# Altium schematic symbol library HR911105A.SchLib: 1 symbol
Pins are listed as number, name and electrical type; pins without a type are passive.

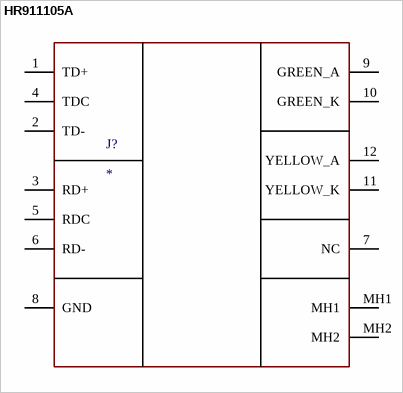
[diagram p0: symbol HR911105A]

## HR911105A
designator J?
Connector; Manufacturer_Name: Hanrun Electronics; Manufacturer_Part_Number: HR911105A; Datasheet Link: https://datasheet.lcsc.com/szlcsc/Zhongshan-HanRun-Elec-HR911105A_C12074.pdf; Height: 13.75mm
footprint HR911105A
pins: 1 TD+, 2 TD-, 3 RD+, 4 TDC, 5 RDC, 6 RD-, 7 NC, 8 GND, 9 GREEN_A, 10 GREEN_K, 11 YELLOW_K, 12 YELLOW_A, MH1, MH2